# Altium footprint library DRV8800RTYR fp.PcbLib: 1 footprints
Each footprint in its own frame and in the unit in brackets; x right, y up, seen from the top. Pads: shape width x height; smd on the part's side, far side on the other; paste and mask are expansions set on the pad; w line width, h text height; cw(c..) or ccw(c..) is an arc to the next point about the centre after c.
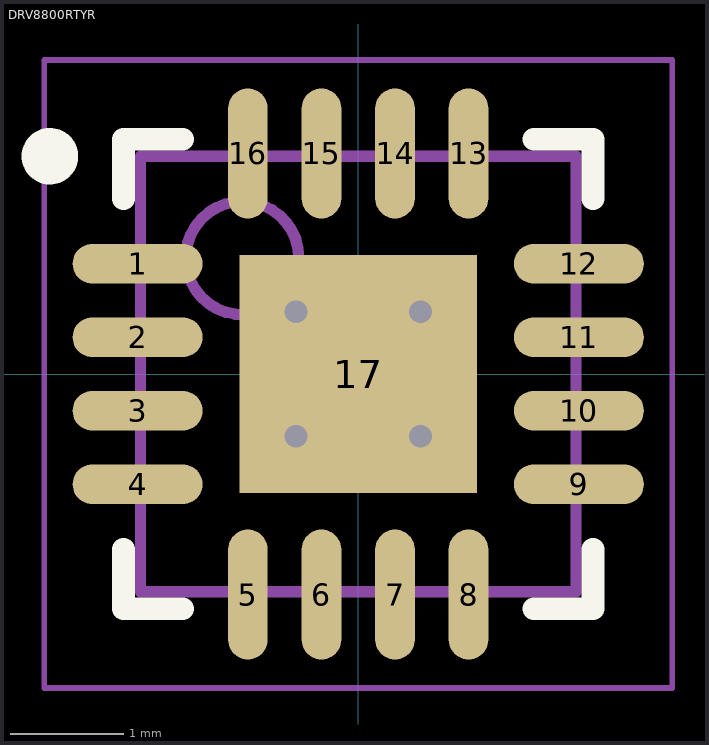
[diagram p0: the footprint, top view; thin cyan lines are the x and y axes]

## DRV8800RTYR [mm]
pads (17):
  oval 1.15x0.35 smd: 1(-1.95,0.975) 2(-1.95,0.325) 3(-1.95,-0.325) 4(-1.95,-0.975) 9(1.95,-0.975) 10(1.95,-0.325) 11(1.95,0.325) 12(1.95,0.975)
  oval 0.35x1.15 smd: 5(-0.975,-1.95) 6(-0.325,-1.95) 7(0.325,-1.95) 8(0.975,-1.95) 13(0.975,1.95) 14(0.325,1.95) 15(-0.325,1.95) 16(-0.975,1.95)
  rect 2.1x2.1 smd: 17(0,0)
via 0.55,-0.55 diameter 0.5 hole 0.2
via -0.55,-0.55 diameter 0.5 hole 0.2
via 0.55,0.55 diameter 0.5 hole 0.2
via -0.55,0.55 diameter 0.5 hole 0.2
Top Overlay:
  circle w0.25: c-2.725,1.925 r0.125
  lines w0.2: -2.075,-1.55 -2.075,-2.075 -1.55,-2.075 ; -2.075,1.55 -2.075,2.075 -1.55,2.075 ; 1.55,-2.075 2.075,-2.075 2.075,-1.55 ; 1.55,2.075 2.075,2.075 2.075,1.55
Mechanical 13:
  circle w0.1: c-1.025,1.025 r0.5
  lines w0.1: -1.925,-1.925 1.925,-1.925 1.925,1.925 -1.925,1.925 -1.925,-1.925
Mechanical 15:
  lines w0.05: -2.775,-2.775 2.775,-2.775 2.775,2.775 -2.775,2.775 -2.775,-2.775
  lines w0.1: -0.5,0 0.5,0 ; 0,-0.5 0,0.5
3D body "DRV8800RTYR footprint.step": height 0.8, standoff 0, extent -1.975,-1.975 1.975,1.975